# Altium schematic symbol library MyLibrary.SchLib: 33 symbols
Pins are listed as number, name and electrical type; pins without a type are passive.

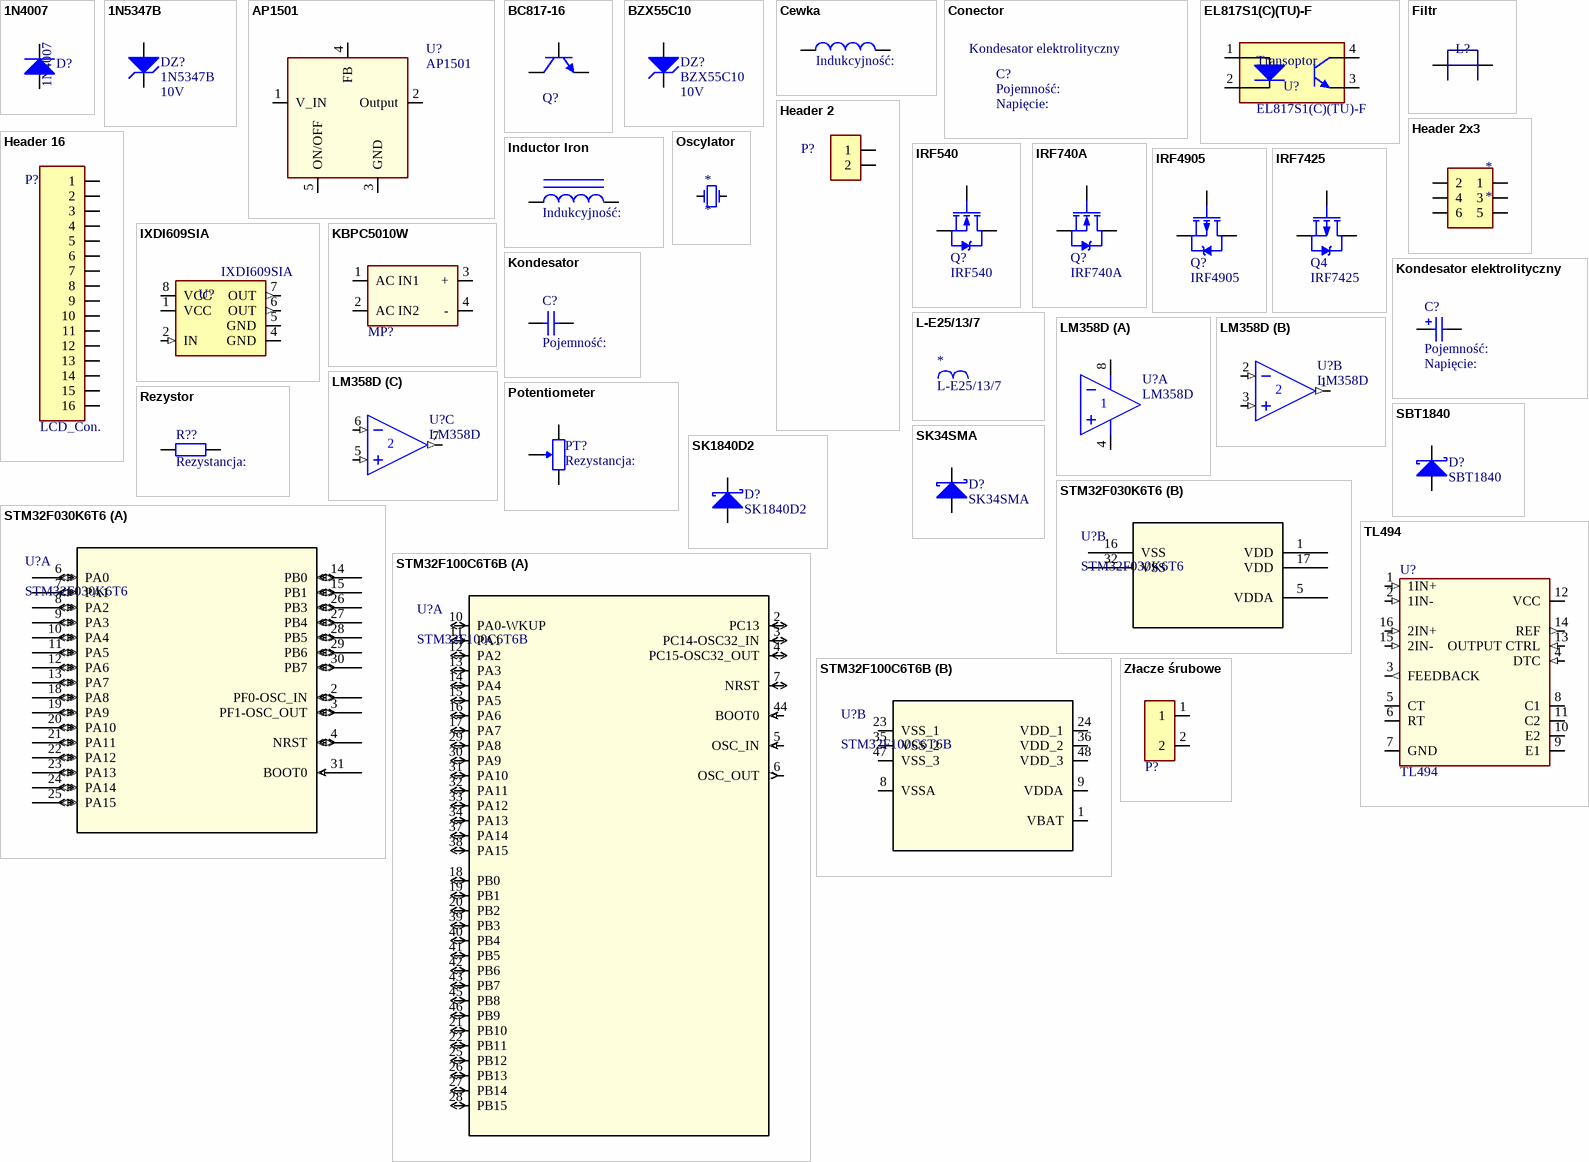
[diagram p0: symbols 1N4007 to Złacze śrubowe]

## 1N4007
designator D?
Dioda; Parametr_1: Prąd przewodzenia: 1A; Parametr_2: Max imp. prąd przewodzenia: 30A; Parametr_3: Max nap. przewodzenia: 1,1V; Parametr_4: Max wsteczne nap.: 1kV; Nazwa: Dioda; Oznaczenie: 1N4007
pins: 1 A, 1 A, 2 K, 2 K

## 1N5347B
designator DZ?  Parametr_1: 10V  (hidden comment: 1N5347B)
Dioda Zenera; Dostawca: TME; Montaż: THT; Obudowa: DO-201AE; Producent: DC COMPONENTS; Parametr_3: Tolerancja: 5%; Parametr_4: Prąd upływu: 5uA; Parametr_2: 5W; Nazwa: Dioda zenera; Oznaczenie: 1N5347B
footprint DO-201AE
pins: 1 A, 2 K

## AP1501
designator U?
przetwornica DC/DC buck; Dostawca: TME; Parametr_1: Nap. wy:; Parametr_2: Prąd: 3A; Parametr_3: Częstotliwość: 150kHz; Parametr_4: Temperatura: -20-85C; Parametr_5: Sprawność: 73%; Producent: DIODES INCORPORATED; Nazwa: przetwornica DC/DC buck; Oznaczenie: AP1501
footprint TO220-5L
footprint TO263-5L
pins: 1 V_IN (power), 2 Output (power), 3 GND (power), 4 FB, 5 ON/OFF, 6

## BC817-16
designator Q?  (value not drawn)
Tranzystor bipolarny PNP; Dostawca: TME; Montaż: SMD; Obudowa: SOT323; Producent: DIOTEC SEMICONDUCTOR; Parametr_3: Npa. C-E: 45V; Parametr_4: Wzmocnienie: 100-250; Parametr_5: Częstotliwość: 100Mhz; Parametr_2: Prąd kolektora: 0,8A; Nazwa: Tranzystor bipolarny PNP; Oznaczenie: BC817-16
footprint SOT323
pins: 1 B, 2 E, 3 C

## BZX55C10
designator DZ?  Parametr_1: 10V  (hidden comment: BZX55C10)
Dioda Zenera; Dostawca: TME; Montaż: THT; Obudowa: DO-35; Producent: DC COMPONENTS; Parametr_3: Tolerancja: 5%; Parametr_2: 0,5W; Nazwa: Dioda zenera; Oznaczenie: BZX55C10
footprint DO-35
pins: 1 A, 2 K

## Cewka
designator L?  Parametr_1: Indukcyjność:  (hidden comment: Cewka)
Parametr_2: Prąd:; Parametr_4: Toleracja:; Parametr_3: Rezystancja:; Parametr_5: Temperatura:
footprint DE1207
pins: 1 3, 2 8

## Conector
designator C?, comment Kondesator elektrolityczny  Parametr_1: Pojemność:  Parametr_2: Napięcie:
Dostawca: TME; Parametr_3: Tolerancja:; Parametr_4: Czas życzia:; Parametr_5: Temperatura pracy:; Nazwa: Kondesator elektrolityczny
footprint C_POL-R25X50
footprint C_POL_D16x18
footprint C_POL_D16x25
footprint C_POL_D6,3x11,2
footprint C_POL_D10x16
footprint C_POL_D8x11,5
1 alternate drawing of the same symbol

## EL817S1(C)(TU)-F
designator U?, comment Transoptor  Oznaczenie: EL817S1(C)(TU)-F
Kondesator elektrolityczny; Nazwa: Tranzoptor; Kod TME: EL817S1-C-TU-F
footprint S1
pins: 1, 2, 3, 4
1 alternate drawing of the same symbol

## Filtr
designator L?
footprint SMD-1206-RES
pins: 1, 2

## Header 2
designator P?
LatestRevisionDate: 17-Jul-2002; LatestRevisionNote: Re-released for DXP Platform.; Publisher: Altium Limited
footprint Header_Male 1x2
pins: 1, 2

## Header 2x3
designator *
Nazwa: Header 2x3
footprint goldpin SMD 1,27
footprint Header_Male 2X3
pins: 1, 2, 3, 4, 5, 6

## Header 16
designator P?, comment LCD_Con.
Header, 16-Pin; LatestRevisionDate: 17-Jul-2002; LatestRevisionNote: Re-released for DXP Platform.; Publisher: Altium Limited
footprint Header_Female 1x16
footprint Header_Male 1x16
pins: 1, 2, 3, 4, 5, 6, 7, 8, 9, 10, 11, 12, 13, 14, 15, 16

## Inductor Iron
designator L?  Parametr_1: Indukcyjność:  (hidden comment: Inductor Iron)
Magnetic-Core Inductor; Parametr_2: Ilość zwoji:; Parametr_3: Średnica drutu:; Revision: July-2002: Re-released for DXP Platform.
footprint L-EXX/XX/X
pins: 1 3, 5 8

## IRF540
designator Q?
Traznystor MOSFET-N; Nazwa: Tranzystor MOSFET-N; Parametr_1: Prąd drenu: 20A; Parametr_2: Nap. dren-żródło: 100V; Parametr_3: Nap. bramka-żródło: -/+20V; Parametr_4: Rezystacja w stanie przewodzenia: 77mOhm; Parametr_6: Moc rozpraszana: 150W; Oznaczenie: IRF540
footprint TO-220-AB (TO, Thru-Hole, Vertical, Heatsink Mounted; 3 In-Line Leads; Pitch 2.54 mm)
footprint TO-220 LEŻ (Stabilizator)
pins: 1 G, 2 D, 3 S

## IRF740A
designator Q?
Traznystor MOSFET-N; Nazwa: Tranzystor MOSFET-N; Parametr_1: Prąd drenu: 6,3A; Parametr_2: Nap. dren-żródło: 400V; Parametr_3: Nap. bramka-żródło: -/+30V; Parametr_4: Rezystacja w stanie przewodzenia: 550mOhm; Parametr_6: Moc rozpraszana: 125W; Oznaczenie: IRF740A
footprint TO-220-AB (TO, Thru-Hole, Vertical, Heatsink Mounted; 3 In-Line Leads; Pitch 2.54 mm)
footprint TO-220 LEŻ (Stabilizator)
pins: 1 G, 2 D, 3 S

## IRF4905
designator Q?
Traznystor MOSFET-P; Nazwa: Tranzystor MOSFET-P; Parametr_1: Prąd drenu: -74A; Parametr_2: Nap. dren-żródło: -55V; Parametr_3: Nap. bramka-żródło: -/+20V; Parametr_4: Rezystacja w stanie przewodzenia: 20mOhm; Parametr_6: Moc rozpraszana: 200W; Oznaczenie: IRF4905
footprint TO-220-AB (TO, Thru-Hole, Vertical, Heatsink Mounted; 3 In-Line Leads; Pitch 2.54 mm)
footprint TO-220 LEŻ (Stabilizator)
footprint D2PAK (D2-PAK/TO-263-AB; 3 Leads (1 Cropped); Body 15.5 (inc. leads) x 10.5 mm (LxW max))
footprint D2PAK _Via (D2-PAK/TO-263-AB; 3 Leads (1 Cropped); Body 15.5 (inc. leads) x 10.5 mm (LxW max))
pins: 1 G, 2 D, 3 S

## IRF7425
designator Q4
HEXFET Power MOSFET
pins: 1 G, 2 S, 3 D

## IXDI609SIA
designator U?
driver MOSFET; Parametr_1: Prad: -9-9A; Parametr_2: Nap. zasilania: 4,5-35V; Parametr_3: 1 kanał odwracajcy; Producent: IXYS; Nazwa: driver MOSFET; Kod_TME: IXDI609SIA; Oznaczenie: IXDI609SIA
footprint SO8 (8-Pin Small Outline Integrated Circuit 1.27 mm Pitch, IPC High Density)
pins: 1 VCC (power), 2 IN (in), 4 GND (power), 5 GND (power), 6 OUT (out), 7 OUT (out), 8 VCC (power)

## KBPC5010W
designator MP?  (value not drawn)
Mostek porstowniczy; Montaż: THT; Obudowa: MB-25W; Parametr_1: Prad: 50A; Parametr_2: Max Prad w impulsie: 500A; Parametr_3: Max Nap przewodzenia: 1,1V; Parametr_4: Max Nap wsteczne: 1kV; Parametr_5: Jednofazowy; Producent: DC COMPONENTS; Nazwa: KBPC5010W; Oznaczenie: KBPC5010W
footprint KBPC5010W
pins: 1 AC IN1, 2 AC IN2, 3 +, 4 -

## Kondesator
designator C?  Parametr_1: Pojemność:
Montaż: THT; Nazwa: Kondesator; Obudowa: Ceramiczna; Parametr_2: Napięcie:; Parametr_3: Tolerancja:; Parametr_4: Temperatura pracy:
footprint 2,54mm_ceramiczny
footprint 5mm_ceramiczny
footprint SMD-0201c (SMD-0201)
footprint SMD-0402C
footprint SMD-0603C
footprint SMD-0805C
footprint SMD-1007C (2.5mm x 1.8mm)
footprint SMD-1008C
footprint SMD-1206C
footprint SMD-1210C
footprint SMD-4030C (~13x7mm)
pins: 1, 2

## Kondesator elektrolityczny
designator C?  Parametr_1: Pojemność:  Parametr_2: Napięcie:
Dostawca: TME; Nazwa: Kondesator elektrolityczny; Parametr_3: Tolerancja:; Parametr_4: Czas życzia:; Parametr_5: Temperatura pracy:
footprint C_POL-R25X50
footprint C_POL_D16x18
footprint C_POL_D16x25
footprint C_POL_D6,3x11,2
footprint C_POL_D10x16
footprint C_POL_D8x11,5
footprint SMD-1206C
footprint SMD-0201c (SMD-0201)
footprint SMD-0402C
footprint SMD-0603C
footprint SMD-0805C
footprint SMD-1007C (2.5mm x 1.8mm)
footprint SMD-1210C
footprint SMD-4030C (~13x7mm)
pins: 1, 2
1 alternate drawing of the same symbol

## L-E25/13/7
designator *
footprint L-E25/13/7
footprint L-EXX/XX/X

## LM358D
designator U?
Wzmacniacz operacyjny; Parametr_1: Pasmo przenoszenia: 1,1MHz; Parametr_2: Liczba kanałów: 2; Parametr_3: Szybkość narastania nap.:  0,6V/us; Parametr_4: Teperatura pracy: 0-70C; Parametr_5: Npa. zasilania: 3-30V; Nazwa: Wzmacniacz operacyjny; Oznaczenie: LM358D
footprint SOIC8
footprint DIP8
part A pins: 4 V- (power), 8 V+ (power)
part B pins: 1 OUT (out), 2 IN- (in), 3 IN+ (in)
part C pins: 5 IN+ (in), 6 IN- (in), 7 OUT (out)

## Oscylator
designator *
footprint HC49SM
pins: 1 OSC1, 2 OSC2

## Potentiometer
designator PT?  Parametr_1: Rezystancja:  (hidden comment: Potentiometer)
Potentiometer montażowy wielobortowy; Parametr_2: Moc:; Parametr_3: Tolerancja:; Parametr_4: Charakterystyka:; Parametr_5: Temperatura pracy:; Parametr_6: Max nap. pracy:; Nazwa: Potentiometer montażowy wielobortowy
footprint Potecjomert
pins: 1 TOP, 2 TAP, 3 BOT
1 alternate drawing of the same symbol

## Rezystor
designator R??  Parametr_1: Rezystancja:  (hidden comment: Rezystor)
Parametr_2: Moc:; Parametr_3: Tolerancja:; Parametr_4: Max nap. pracy:; Parametr_5: Max nap impulsowe:; Nazwa: Rezystor
footprint AXIAL-0,3(1/8)
footprint SMD-0201-RES
footprint SMD-0402-RES
footprint SMD-0603-RES
footprint SMD-0805-RES
footprint SMD-1206-RES
footprint SMD-2512-RES
footprint AXIAL-0,4(1/4w)
footprint AXIAL-0,5(1/2w)
footprint AXIAL-0,7(1w)
pins: 1, 2

## SBT1840
designator D?
Dioda Schottky; Dostawca: TME; Montaż: THT; Obudowa: TO-220AC; Parametr_1: Prąd: 18A; Parametr_2: Max prąd imp.: 280A; Parametr_3: Max nap. wsteczne: 40V; Producent: DIOTEC SEMICONDUCTOR; Nazwa: Dioda Schottky; Oznaczenie: SBT1840
footprint TO-220-AC
footprint TO-220AC LEŻ
pins: 1 K, 3 A, 4 A

## SK34SMA
designator D?
Dioda Schottky; Dostawca: TME; Montaż: THT; Obudowa: DO-214AC; Parametr_1: Prąd: 3A; Parametr_2: Max prąd imp.: 80A; Parametr_3: Max nap. wsteczne: 40V; Producent: DIOTEC SEMICONDUCTOR; Nazwa: Dioda Schottky; Oznaczenie: SK34SMA
footprint DO-214AC
pins: 1 K, 2 A

## SK1840D2
designator D?
Dioda Schottky; Dostawca: TME; Montaż: SMD; Obudowa: D2PAK; Parametr_1: Prąd: 18A; Parametr_2: Max prąd imp.: 280A; Parametr_3: Max nap. wsteczne: 40V; Producent: DIOTEC SEMICONDUCTOR; Nazwa: Dioda Schottky; Oznaczenie: SK1840D2
footprint D2PAK (D2-PAK/TO-263-AB; 3 Leads (1 Cropped); Body 15.5 (inc. leads) x 10.5 mm (LxW max))
pins: 1 K, 3 A, 4 A

## STM32F030K6T6
designator U?
No Description Available; Mfr_Name: STMicroelectronics; Copyright: Copyright (C) 2022 Ultra Librarian. All rights reserved.; Manufacturer_Part_Number: STM32F030K6T6; RefDes: RefDes; Type: DEV
footprint LQFP-32
part A pins: 2 PF0-OSC_IN (io), 3 PF1-OSC_OUT (io), 4 NRST (io), 6 PA0 (io), 7 PA1 (io), 8 PA2 (io), 9 PA3 (io), 10 PA4 (io), 11 PA5 (io), 12 PA6 (io), 13 PA7 (io), 14 PB0 (io), 15 PB1 (io), 18 PA8 (io), 19 PA9 (io), 20 PA10 (io), 21 PA11 (io), 22 PA12 (io), 23 PA13 (io), 24 PA14 (io), 25 PA15 (io), 26 PB3 (io), 27 PB4 (io), 28 PB5 (io), 29 PB6 (io), 30 PB7 (io), 31 BOOT0 (in)
part B pins: 1 VDD (power), 5 VDDA (power), 16 VSS (power), 17 VDD (power), 32 VSS (power)

## STM32F100C6T6B
designator U?
No Description Available; Mfr_Name: STMicroelectronics; Copyright: Copyright (C) 2022 Ultra Librarian. All rights reserved.; Manufacturer_Part_Number: STM32F100C6T6B; RefDes: RefDes; Type: DEV
footprint LQFP48-7x7mm (Footprint not found)
part A pins: 2 PC13 (io), 3 PC14-OSC32_IN (io), 4 PC15-OSC32_OUT (io), 5 OSC_IN (in), 6 OSC_OUT (out), 7 NRST (io), 10 PA0-WKUP (io), 11 PA1 (io), 12 PA2 (io), 13 PA3 (io), 14 PA4 (io), 15 PA5 (io), 16 PA6 (io), 17 PA7 (io), 18 PB0 (io), 19 PB1 (io), 20 PB2 (io), 21 PB10 (io), 22 PB11 (io), 25 PB12 (io), 26 PB13 (io), 27 PB14 (io), 28 PB15 (io), 29 PA8 (io), 30 PA9 (io), 31 PA10 (io), 32 PA11 (io), 33 PA12 (io), 34 PA13 (io), 37 PA14 (io), 38 PA15 (io), 39 PB3 (io), 40 PB4 (io), 41 PB5 (io), 42 PB6 (io), 43 PB7 (io), 44 BOOT0 (in), 45 PB8 (io), 46 PB9 (io)
part B pins: 1 VBAT (power), 8 VSSA (power), 9 VDDA (power), 23 VSS_1 (power), 24 VDD_1 (power), 35 VSS_2 (power), 36 VDD_2 (power), 47 VSS_3 (power), 48 VDD_3 (power)

## TL494
designator U?
DC/DC switcher, kontroler PWM; Parametr_1: Prąd wyjściowy: 0,25A; Parametr_2: Częstotliwość: 300kHz; Parametr_3: Liczba kanałów: 2; Parametr_4: Temperatura pracy: 0-70C; Parametr_5: Napięcie pracy: 7-40V; Nazwa: DC/DC switcher, kontroler PWM; Oznaczenie: TL494
footprint DIP16
footprint SOP16
pins: 1 1IN+ (in), 2 1IN- (in), 3 FEEDBACK (out), 4 DTC (in), 5 CT, 6 RT, 7 GND (power), 8 C1, 9 E1, 10 E2, 11 C2, 12 VCC (power), 13 OUTPUT CTRL (in), 14 REF (out), 15 2IN- (in), 16 2IN+ (in)

## Złacze śrubowe
designator P?  (value not drawn)
Dostawca: TME; Montaż: THT; Nazwa: Listwa zaciskowa do druku, XY301V-2P; Parametr_1: 250VDC/AC; Parametr_2: 16A; Parametr_3: 1,5mm2; Producent: XINYA
footprint ARK2-5mm
pins: 1, 2